# EAGLE library part DAC,QUAD12-BIT,PAR,HV (library QuantumOptics)
DAC, quad 12-bit, parallel, uni-bipolar, TI DAC7724, up to ±10V.
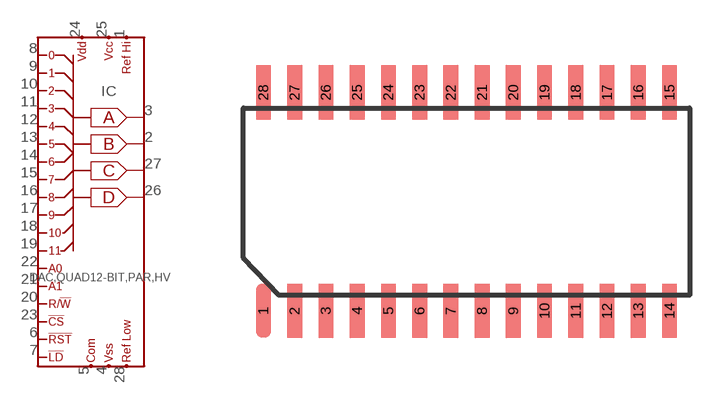
[diagram p196: symbol with the pads of SOIC28; footprint SOIC28]

Designator prefix IC

## DAC,QUAD12-BIT,PAR,HV-SOIC28  [SOIC28]
1  REF-HIGH
2  QB  out
3  QA  out
4  VSS
5  COM
6  !RST  in
7  !LDAC  in
8  D0  in
9  D1  in
10  D2  in
11  D3  in
12  D4  in
13  D5  in
14  D6  in
15  D7  in
16  D8  in
17  D9  in
18  D10  in
19  D11  in
20  R/!W  in
21  A1  in
22  A0  in
23  !CS  in
24  VDD
25  VCC
26  QD  out
27  QC  out
28  REF-LOW

## Footprint SOIC28 (pad centres in mm)
SOIC-28, TI's DW package, 0.05" pad spacing with 10mm (0.394") wide case and 10.63WOA.
smd 0.6 x 2.2: 1 -8.255,-4.445; 2 -6.985,-4.445; 3 -5.715,-4.445; 4 -4.445,-4.445; 5 -3.175,-4.445; 6 -1.905,-4.445; 7 -0.635,-4.445; 8 0.635,-4.445; 9 1.905,-4.445; 10 3.175,-4.445; 11 4.445,-4.445; 12 5.715,-4.445; 13 6.985,-4.445; 14 8.255,-4.445; 15 8.255,4.445; 16 6.985,4.445; 17 5.715,4.445; 18 4.445,4.445; 19 3.175,4.445; 20 1.905,4.445; 21 0.635,4.445; 22 -0.635,4.445; 23 -1.905,4.445; 24 -3.175,4.445; 25 -4.445,4.445; 26 -5.715,4.445; 27 -6.985,4.445; 28 -8.255,4.445